# EAGLE library part LT3750 (library LT3750)
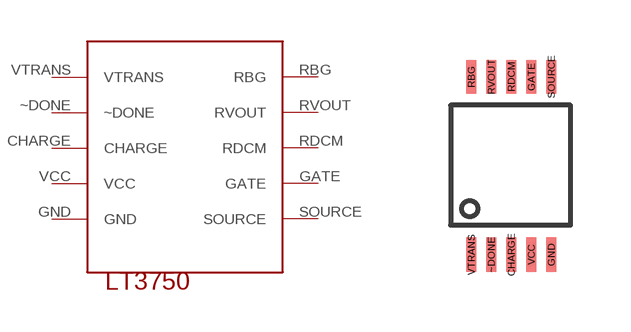
[diagram p0: symbol with the pads of MSOP-10; footprint MSOP-10]

Designator prefix -

## LT3750  [MSOP-10]
CHARGE  CHARGE
GATE  GATE
GND  GND
RBG  RBG
RDCM  RDCM
RVOUT  RVOUT
SOURCE  SOURCE
VCC  VCC
VTRANS  VTRANS
~DONE  ~DONE

## Footprint MSOP-10 (pad centres in mm)
smd 0.25 x 0.85: CHARGE 1.1,-0.4; GATE 1.6,4.05; GND 2.1,-0.4; RBG 0.1,4.05; RDCM 1.1,4.05; RVOUT 0.6,4.05; SOURCE 2.1,4.05; VCC 1.6,-0.4; VTRANS 0.1,-0.4; ~DONE 0.6,-0.4